# Altium schematic symbol library 10k sip.SchLib: 1 symbol
Pins are listed as number, name and electrical type; pins without a type are passive.

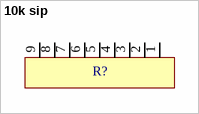
[diagram p0: symbol 10k sip]

## 10k sip
designator R?  (value not drawn)
footprint PCBComponent_1
pins: 1, 2, 3, 4, 5, 6, 7, 8, 9